# Altium schematic symbol library TC1270A.SchLib: 1 symbol
Pins are listed as number, name and electrical type; pins without a type are passive.

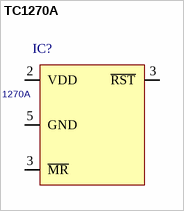
[diagram p0: symbol TC1270A]

## TC1270A
designator IC?
ID: TC1270A; PDF: *; PRICE: *; BUY_LINK: *
footprint SOT23-5
pins: 2 VDD, 3 ~{RST}, 3 ~{MR}, 5 GND